# Altium integrated library RT0603FRD07470RL.IntLib: 1 symbol
Pins are listed as number, name and electrical type; pins without a type are passive.

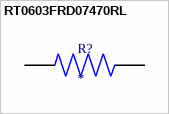
[diagram p0: symbol RT0603FRD07470RL]

## RT0603FRD07470RL
designator R?
470 Ohms Â±1% 0.1W, 1/10W Chip Resistor 0603 (1608 Metric) Thin Film; MF: Yageo; MP: RT0603FRD07470RL; SnapEDA_Link: https://www.snapeda.com/parts/RT0603FRD07470RL/Yageo/view-part/?ref=snap; Package: 1608 Yageo; Value: *; Check_prices: https://www.snapeda.com/parts/RT0603FRD07470RL/Yageo/view-part/?ref=eda
footprint RESC1608X55N
pins: 1, 2